# Altium footprint library SecurityLibrary.PcbLib: 34 footprints (part 1 of 3)
Each footprint in its own frame and in the unit in brackets; x right, y up, seen from the top. Pads: shape width x height; smd on the part's side, far side on the other; paste and mask are expansions set on the pad; w line width, h text height; cw(c..) or ccw(c..) is an arc to the next point about the centre after c.
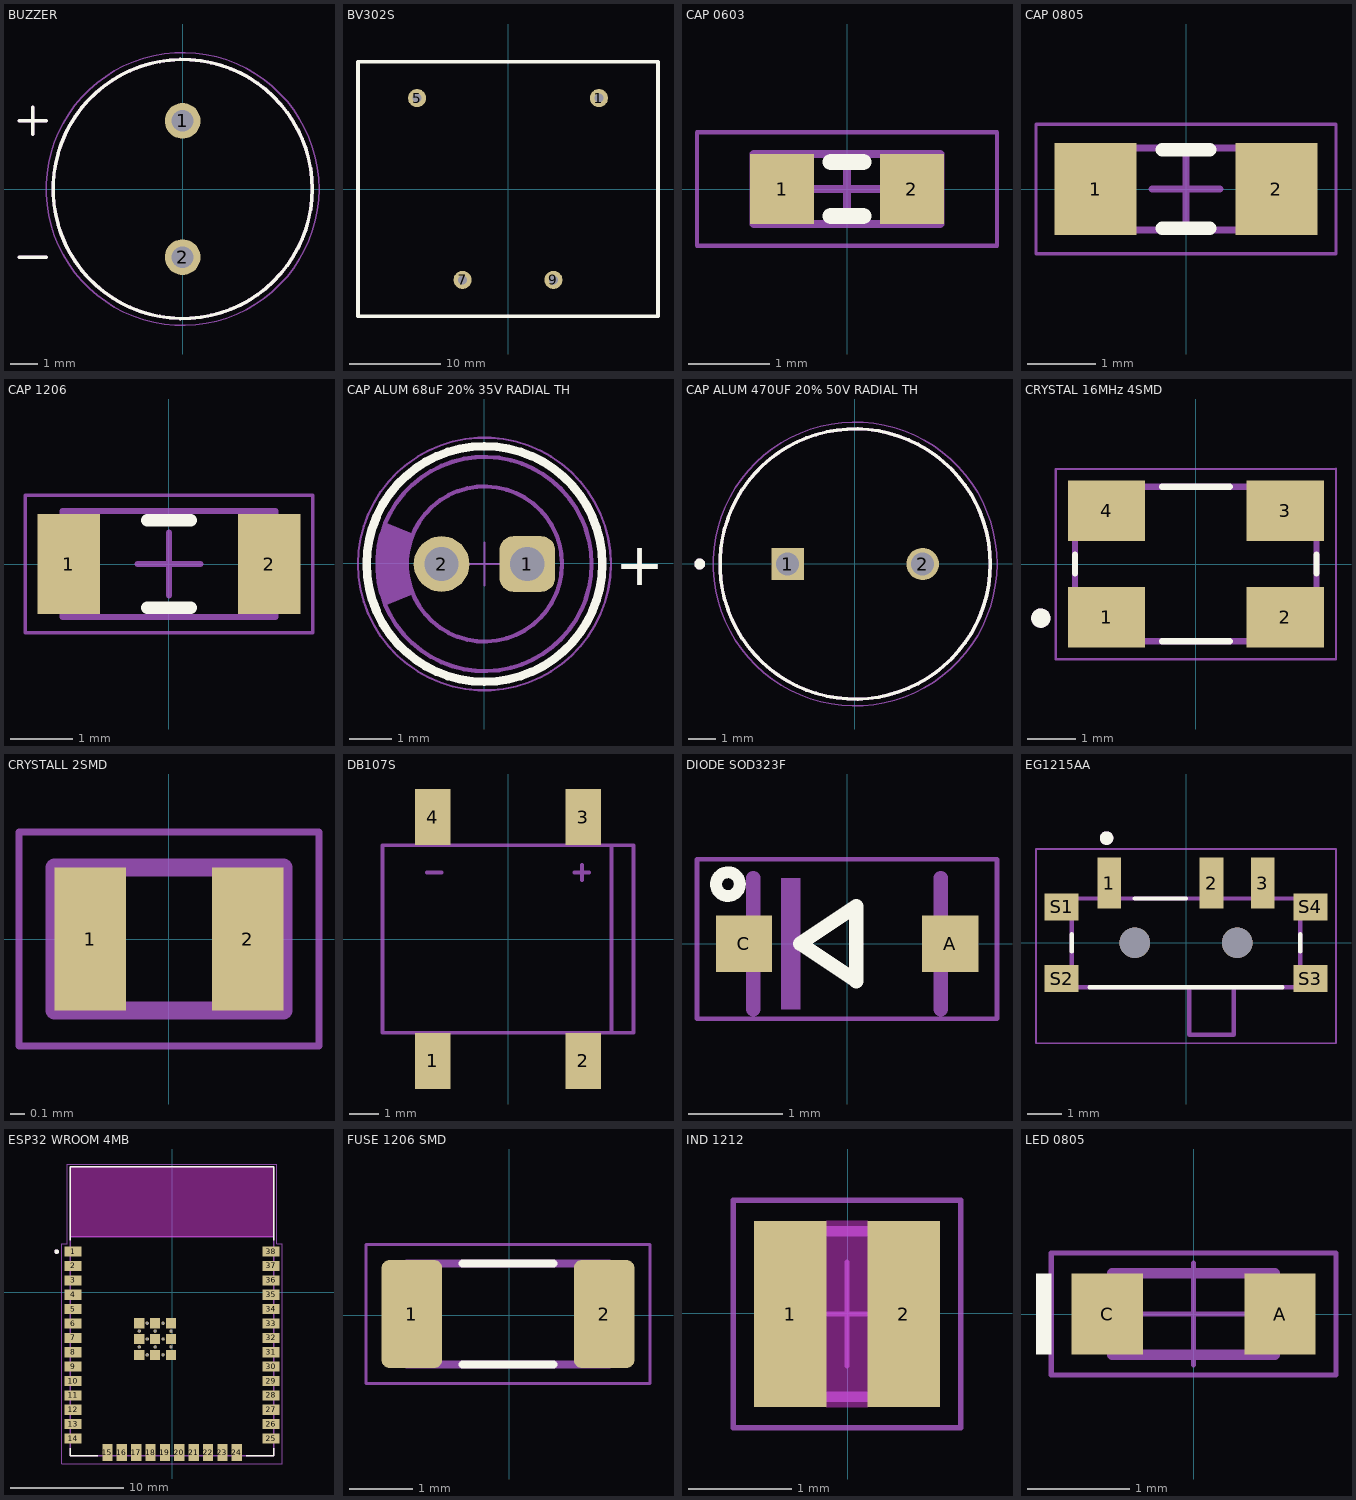
[diagram p0: the footprints below, top view; thin cyan lines are the x and y axes]

## BUZZER [mm] "BUZZER MAGNETIC 3V 9.5MM TH"
pads (2):
  round 1.308 hole 0.8: 1(0,2.5) 2(0,-2.5)
Top Overlay:
  circle w0.127: c0,0 r4.75
  lines w0.127: -6,-2.5 -5,-2.5 ; -6,2.5 -5,2.5 ; -5.5,2 -5.5,3
Top 3D Body (Mech13):
  circle w0.127: c0,0 r4.75
  lines w0.127: -6,-2.5 -5,-2.5 ; -6,2.5 -5,2.5 ; -5.5,2 -5.5,3
Mechanical 15:
  circle w0.05: c0,0 r5
3D body "step_temp.STEP": height 2.42, standoff -7.13, extent -5.943,-4.747 4.759,4.747

## BV302S [mm]
pads (4):
  round 2 hole 1: 1(10,10) 5(-10,10) 7(-5,-10) 9(5,-10)
Top Overlay:
  lines w0.4: -16.5,-14 16.5,-14 16.5,14 -16.5,14 -16.5,-14
3D body "ZETTLER BV301 BV302 v1.step": height 15.5, standoff -5, extent -16.4,-13.9 16.4,13.9

## CAP 0603 [mm] "CAP CER 0603"
pads (2):
  rect 0.787x0.864 smd: 1(-0.8,0) 2(0.8,0)
Top Overlay:
  lines w0.2: -0.2,-0.332 0.2,-0.332 ; -0.2,0.332 0.2,0.332
Top 3D Body (Mech13):
  lines w0.1: -1.15,-0.43 -1.15,0.43 1.15,0.43 1.15,-0.43 -1.15,-0.43
Mechanical 15:
  lines w0.05: -1.85,-0.7 1.85,-0.7 1.85,0.7 -1.85,0.7 -1.85,-0.7
  lines w0.1: -0.43,0 0.43,0 ; 0,-0.43 0,0.43
3D body "CAPC2309X05N.step": height 0.5, standoff 0, extent -1.15,-0.43 1.15,0.43

## CAP 0805 [mm]
pads (2):
  rect 1.2x1.35 smd: 1(-1.325,0) 2(1.325,0)
Top Overlay:
  lines w0.2: -0.35,-0.575 0.35,-0.575 ; -0.35,0.575 0.35,0.575
Top 3D Body (Mech13):
  lines w0.1: -1.5,-0.6 -1.5,0.6 1.5,0.6 1.5,-0.6 -1.5,-0.6
Mechanical 15:
  lines w0.05: -2.2,-0.95 -2.2,0.95 2.2,0.95 2.2,-0.95 -2.2,-0.95
  lines w0.1: -0.5,0 0.5,0 ; 0,-0.5 0,0.5
3D body "CAPC3012X05N.step": height 0.5, standoff 0, extent -1.5,-0.6 1.5,0.6

## CAP 1206 [mm]
pads (2):
  rect 1x1.6 smd: 1(-1.6,0) 2(1.6,0)
Top Overlay:
  lines w0.2: -0.35,-0.7 0.35,-0.7 ; -0.35,0.7 0.35,0.7
Top Courtyard:
  lines w0.05: -2.3,-1.1 2.3,-1.1 2.3,1.1 -2.3,1.1 -2.3,-1.1
  lines w0.1: -0.5,0 0.5,0 ; 0,-0.5 0,0.5
Top 3D Body (Mech13):
  lines w0.1: -1.7,-0.85 1.7,-0.85 1.7,0.85 -1.7,0.85 -1.7,-0.85
3D body "CAPC3215X08N.step": height 0.75, standoff 0, extent -1.7,-0.85 1.7,0.85

## CAP ALUM 68uF 20% 35V RADIAL TH [mm]
pads (2):
  rrect50% 1.3x1.3 hole 0.8: 1(1.008,-0.022)
  round 1.3 hole 0.8: 2(-0.992,-0.022)
Top Overlay:
  circle w0.2: c0.008,-0.022 r2.75
  text "+" at 3.058,-0.522 h1
Top Courtyard:
  circle w0.05: c0.008,-0.022 r2.95
Top Designator:
  text ".Designator" at -4.99,-0.355 h1
Top Component Outline:
  circle w0.1: c0.008,-0.022 r1.81
  circle w0.1: c0.008,-0.022 r2.5
  region: -2.297,-0.99 -1.66,-0.724 -1.66,-0.723 -1.722,-0.554 -1.793,-0.202 -1.793,0.158 -1.722,0.51 -1.66,0.679 -1.66,0.68 -2.297,0.946 -2.393,0.716 -2.492,0.227 -2.492,-0.271 -2.393,-0.76
Top Component Center:
  lines w0.05: -0.492,-0.022 0.508,-0.022 ; 0.008,-0.522 0.008,0.478
3D body "860010573006.STEP": height 11, standoff -20, extent -3.154,-3.203 3.137,3.095

## CAP ALUM 470UF 20% 50V RADIAL TH [mm] "ECA-1HM471"
pads (2):
  rect 1.2x1.2 hole 0.85: 1(-2.487,-0.006)
  round 1.2 hole 0.85: 2(2.513,-0.006)
Top Overlay:
  circle w0.127: c0.013,-0.006 r5
  circle w0.2: c-5.737,-0.006 r0.1
Top 3D Body (Mech13):
  circle w0.127: c0.013,-0.006 r5
  circle w0.2: c-5.737,-0.006 r0.1
Mechanical 15:
  circle w0.05: c0.013,-0.006 r5.25
3D body "step_temp.STEP": height 20, standoff -17, extent -4.987,-5.006 5.013,4.994

## CRYSTAL 16MHz 4SMD [mm]
pads (4):
  rect 1.6x1.25 smd: 1(-1.85,-1.1) 2(1.85,-1.1) 3(1.85,1.1) 4(-1.85,1.1)
Top Overlay:
  circle w0.2: c-3.21,-1.12 r0.1
  lines w0.127: -2.5,-0.2 -2.5,0.2 ; -0.7,-1.6 0.7,-1.6 ; -0.7,1.6 0.7,1.6 ; 2.5,-0.2 2.5,0.2
Top 3D Body (Mech13):
  circle w0.2: c-3.21,-1.12 r0.1
  lines w0.127: -2.5,-1.6 2.5,-1.6 2.5,1.6 -2.5,1.6 -2.5,-1.6
Mechanical 15:
  lines w0.05: -2.9,-1.975 2.9,-1.975 2.9,1.975 -2.9,1.96 -2.9,-1.975
3D body "ECS-160-20-30B-TR.STEP": height 0.85, standoff 0, extent -2.5,-1.6 2.5,1.6

## CRYSTALL 2SMD [mm]
pads (2):
  rect 0.5x1 smd: 1(-0.55,0) 2(0.55,0)
Top 3D Body (Mech13):
  lines w0.127: -0.8,-0.5 0.8,-0.5 0.8,0.5 -0.8,0.5 -0.8,-0.5
Mechanical 15:
  lines w0.05: -1.05,-0.75 1.05,-0.75 1.05,0.75 -1.05,0.75 -1.05,-0.75
3D body "ABS05-32.768KHZ-T--3DModel-STEP-400430.STEP": height 0.5, standoff 0, extent -0.819,-0.549 0.781,0.451

## DB107S [mm] "BRIDGE RECT 1PHASE 600V 1A DB-S"
pads (4):
  rect 1.2x1.9 smd: 1(-2.55,-4.124) 2(2.55,-4.124) 3(2.55,4.126) 4(-2.55,4.126)
Top 3D Body (Mech13):
  lines w0.127: -2.75,2.25 -2.25,2.25 ; 2.25,2.25 2.75,2.25 ; 2.5,2 2.5,2.5 ; 3.5,-3.17 3.5,3.176 ; 3.5,3.176 -4.25,3.176 -4.25,-3.174 4.25,-3.174 4.25,3.176 3.5,3.176
3D body "DB107S--3DModel-STEP-56544.STEP": height 2.7, standoff 0, extent -4.086,-4.947 4.064,4.953

## DIODE SOD323F [mm]
pads (2):
  rect 0.6x0.6 smd: A(1.1,0) C(-1.1,0)
Top Overlay:
  circle w0.127: c-1.27,0.635 r0.127
  lines w0.152: -0.5,0 0.1,-0.4 0.1,0.4 -0.5,0
Top 3D Body (Mech13):
  region: -0.5,-0.701 -0.701,-0.701 -0.701,0.7 -0.5,0.7
  lines w0.152: -1,-0.7 -1,0.7 ; 1,-0.7 1,0.7
Mechanical 15:
  lines w0.05: -1.6,-0.8 1.6,-0.8 1.6,0.9 -1.6,0.9 -1.6,-0.8
3D body "step_temp.STEP": height 1, standoff 0, extent -1.267,-0.635 1.233,0.615

## EG1215AA [mm] "SWITCH SLIDE SPDT"
pads (9):
  rect 0.7x1.5 smd: 1(-2.25,1.75) 2(0.75,1.75) 3(2.25,1.75)
  rect 1x0.8 smd: S1(-3.65,1.05) S2(-3.65,-1.05) S3(3.65,-1.05) S4(3.65,1.05)
  round 0.9 hole 0.9 unplated: ""(-1.5,0) ""(1.5,0)
Top Overlay:
  circle w0.2: c-2.329,3.071 r0.1
  lines w0.127: -3.35,-0.254 -3.35,0.254 ; -2.83,-1.3 2.83,-1.3 ; -1.5,1.3 0,1.3 ; 3.35,-0.254 3.35,0.254
Top 3D Body (Mech13):
  circle w0.2: c-2.329,3.071 r0.1
  lines w0.127: 0.1,-1.3 1.4,-1.3 ; 0.1,-1.3 0.1,-2.7 1.4,-2.7 1.4,-1.3 ; 0.1,-1.3 -3.35,-1.3 -3.35,1.3 3.35,1.3 3.35,-1.3 1.4,-1.3
Mechanical 15:
  lines w0.05: -4.4,-2.95 4.4,-2.95 4.4,2.75 -4.4,2.75 -4.4,-2.95
3D body "step_temp.STEP": height 1.4, standoff -0.3, extent -3.85,-2.7 3.85,2.2

## ESP32 WROOM 4MB [mm]
pads (59):
  rect 1.5x0.9 smd: 1(-8.75,3.609) 2(-8.75,2.339) 3(-8.75,1.069) 4(-8.75,-0.201) 5(-8.75,-1.471) 6(-8.75,-2.741) 7(-8.75,-4.011) 8(-8.75,-5.281) 9(-8.75,-6.551) 10(-8.75,-7.821) 11(-8.75,-9.091) 12(-8.75,-10.361) 13(-8.75,-11.631) 14(-8.75,-12.901) 25(8.75,-12.901) 26(8.75,-11.631) 27(8.75,-10.361) 28(8.75,-9.091) 29(8.75,-7.821) 30(8.75,-6.551) 31(8.75,-5.281) 32(8.75,-4.011) 33(8.75,-2.741) 34(8.75,-1.471) 35(8.75,-0.201) 36(8.75,1.069) 37(8.75,2.339) 38(8.75,3.609)
  rect 0.9x1.5 smd: 15(-5.715,-14.151) 16(-4.445,-14.151) 17(-3.175,-14.151) 18(-1.905,-14.151) 19(-0.635,-14.151) 20(0.635,-14.151) 21(1.905,-14.151) 22(3.175,-14.151) 23(4.445,-14.151) 24(5.715,-14.151)
  rect 0.9x0.9 smd: 39_1(-2.9,-2.711) 39_2(-1.5,-2.711) 39_3(-0.1,-2.711) 39_4(-2.9,-4.111) 39_5(-1.5,-4.111) 39_6(-0.1,-4.111) 39_7(-2.9,-5.511) 39_8(-1.5,-5.511) 39_9(-0.1,-5.511)
  round 0.3 hole 0.2 mask+0: 39_10(-2.2,-2.711) 39_11(-0.8,-2.711) 39_12(-2.9,-3.411) 39_13(-1.5,-3.411) 39_14(-0.1,-3.411) 39_15(-2.2,-4.111) 39_16(-0.8,-4.111) 39_17(-2.9,-4.811) 39_18(-1.5,-4.811) 39_19(-0.1,-4.811) 39_20(-2.2,-5.511) 39_21(-0.8,-5.511)
Top Overlay:
  circle w0.2: c-10.2,3.609 r0.1
  lines w0.127: -9,-13.751 -9,-14.401 -6.55,-14.401 ; -9,4.599 -9,11.099 9,11.099 9,4.599 ; 6.55,-14.401 9,-14.401 9,-13.751
Keep-Out Layer:
  region: 9,4.909 -9,4.909 -9,11.099 9,11.099
Top 3D Body (Mech13):
  circle w0.2: c-10.2,3.609 r0.1
  lines w0.127: -9,4.909 9,4.909 ; -9,4.909 -9,11.099 9,11.099 9,4.909 ; -9,4.909 -9,-14.401 9,-14.401 9,4.909
  text "ANTENNA" at -6,7.349 h1.78
Mechanical 15:
  lines w0.05: -9.75,-15.151 -9.75,4.309 -9.25,4.309 -9.25,11.349 9.25,11.349 9.25,4.309 9.75,4.309 9.75,-15.151 -9.75,-15.151
3D body "step_temp.STEP": height 3.25, standoff 0, extent -9,-14.401 9,11.099

## FUSE 1206 SMD [mm] "3413.0216.22"
pads (2):
  rrect25% 0.96x1.71 smd: 1(-1.543,0.021) 2(1.507,0.021)
Top Overlay:
  lines w0.127: -0.743,-0.779 0.707,-0.779 ; -0.743,0.821 0.707,0.821
Top 3D Body (Mech13):
  lines w0.127: -1.618,-0.779 -1.618,0.821 1.582,0.821 1.582,-0.779 -1.618,-0.779
Mechanical 15:
  lines w0.05: -2.273,-1.084 2.237,-1.084 2.237,1.126 -2.273,1.126 -2.273,-1.084
3D body "3413.0216.22.STEP": height 0.6, standoff 0, extent -1.6,-0.8 1.6,0.8

## IND 1212 [mm]
pads (2):
  rect 0.7x1.8 smd: 1(-0.555,-0.007) 2(0.545,-0.007)
Top Layer keep-out:
  region: -0.205,0.893 0.195,0.893 0.195,-0.907 -0.205,-0.907
Top Designator:
  text ".Designator" at -2.504,-0.173 h0.5
Assembly Notes:
  lines w0.05: -1.105,-1.107 1.095,-1.107 1.095,1.093 -1.105,1.093 -1.105,-1.107
Top Component Outline:
  lines w0.1: -0.805,-0.807 0.795,-0.807 0.795,0.793 -0.805,0.793 -0.805,-0.807
Top Component Center:
  lines w0.05: -0.505,-0.007 0.495,-0.007 ; -0.005,-0.507 -0.005,0.493
3D body "Download_STP_WE-MAIA-3015_rev1.stp": height 1.2, standoff 0, extent -1.5,-1.5 1.5,1.5

## LED 0805 [mm]
pads (2):
  rect 0.7x0.8 smd: A(0.85,0) C(-0.85,0)
Top Overlay:
  rectangle: -1.55,-0.4 -1.4,0.4
Top Courtyard:
  lines w0.05: -0.5,0 0.5,0 ; 0,-0.5 0,0.5 ; -1.4,-0.6 -1.4,0.6 1.4,0.6 1.4,-0.6 -1.4,-0.6
Top Designator:
  text ".Designator" at -2.499,-0.167 h0.5
Top Component Outline:
  rectangle: -0.8,-0.4 -0.5,0.4
  lines w0.1: -0.8,-0.4 -0.8,0.4 0.8,0.4 0.8,-0.4 -0.8,-0.4
3D body "150060xx86000.stp": height 0.95, standoff 0, extent -0.8,-0.4 0.8,0.4